# Altium footprint library Diode_Diodes_MMSZ5233B_eec_0.PcbLib: 1 footprints
Each footprint in its own frame and in the unit in brackets; x right, y up, seen from the top. Pads: shape width x height; smd on the part's side, far side on the other; paste and mask are expansions set on the pad; w line width, h text height; cw(c..) or ccw(c..) is an arc to the next point about the centre after c.
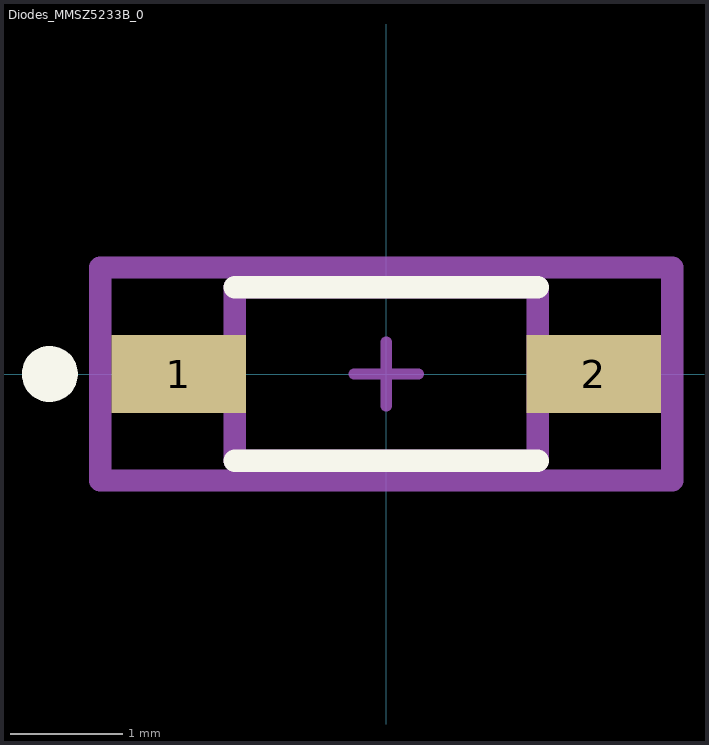
[diagram p0: the footprint, top view; thin cyan lines are the x and y axes]

## Diodes_MMSZ5233B_0 [mm]
pads (2):
  rect 1.2x0.7 smd paste+0 mask+0: 1(-1.85,0) 2(1.85,0)
Top Overlay:
  circle w0.25: c-3,0 r0.125
  lines w0.2: -1.35,-0.775 1.35,-0.775 ; -1.35,0.775 1.35,0.775
Mechanical 10:
  lines w0.2: -2.55,-0.95 2.55,-0.95 2.55,0.95 -2.55,0.95 -2.55,-0.95
  text ".Designator" at 0,0 h1
Mechanical 12:
  lines w0.2: -1.35,-0.775 1.35,-0.775 1.35,0.775 -1.35,0.775 -1.35,-0.775
Mechanical 15:
  lines w0.1: -0.285,0 0.285,0 ; 0,-0.285 0,0.285
  lines w0.2: -2.55,-0.95 2.55,-0.95 2.55,0.95 -2.55,0.95 -2.55,-0.95
3D body "Diode_Diodes_MMSZ5233B_eec.STEP": height 0.25, standoff 0, extent -2.55,-0.95 2.55,0.95